# EAGLE library part PUSH_BUTTON_DPDT (library switches)
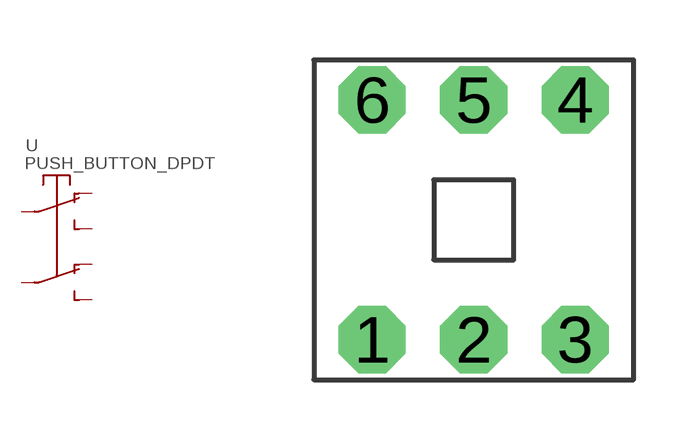
[diagram p0: symbol with the pads of PUSH_BUTTON_DPDT; footprint PUSH_BUTTON_DPDT]

Designator prefix -

## PUSH_BUTTON_DPDT (PACKAGE: PUSH_6PINS)  [PUSH_BUTTON_DPDT]
1  R_A  pas
2  T_A  pas
3  COM_A  pas
4  R_B  pas
5  T_B  pas
6  COM_B  pas

## Footprint PUSH_BUTTON_DPDT (pad centres in mm)
drill 0.8 pad 1.676 octagon: 1 -2.54,-3; 2 0,-3; 3 2.54,-3; 4 2.54,3; 5 0,3; 6 -2.54,3